# EAGLE library part 1803468 (library Terminal-Blocks)
TERM BLOCK HDR 6POS VERT 3.81MM
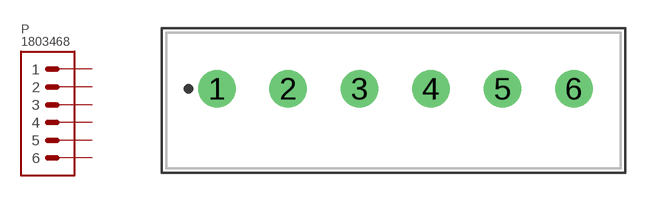
[diagram p1: symbol with the pads of 1803468; footprint 1803468]

Designator prefix P

## 1803468 (DATASHEET: https://media.digikey.com/pdf/Data%20Sheets/Phoenix%20Contact%20PDFs/1803468.pdf; DESCRIPTION: 6 Position Terminal Block Header, Male Pins, Shrouded (4 Side) 0.150" (3.81mm) Vertical Through Hole; LINK: https://www.phoenixcontact.com/en-in/products/pcb-headers-mcv-15-6-g-381-1803468; MANUFACTURER: Phoenix Contact; MPN: 1803468; PITCH: 3.81mm)  [1803468]
1  1
2  2
3  3
4  4
5  5
6  6

## Footprint 1803468 (pad centres in mm)
drill 1.2 pad 2: 1 0,0; 2 3.81,0; 3 7.62,0; 4 11.43,0; 5 15.24,0; 6 19.05,0